# Altium footprint library SamacSys.PcbLib: 25 footprints (part 2 of 2)
Each footprint in its own frame and in the unit in brackets; x right, y up, seen from the top. Pads: shape width x height; smd on the part's side, far side on the other; paste and mask are expansions set on the pad; w line width, h text height; cw(c..) or ccw(c..) is an arc to the next point about the centre after c.
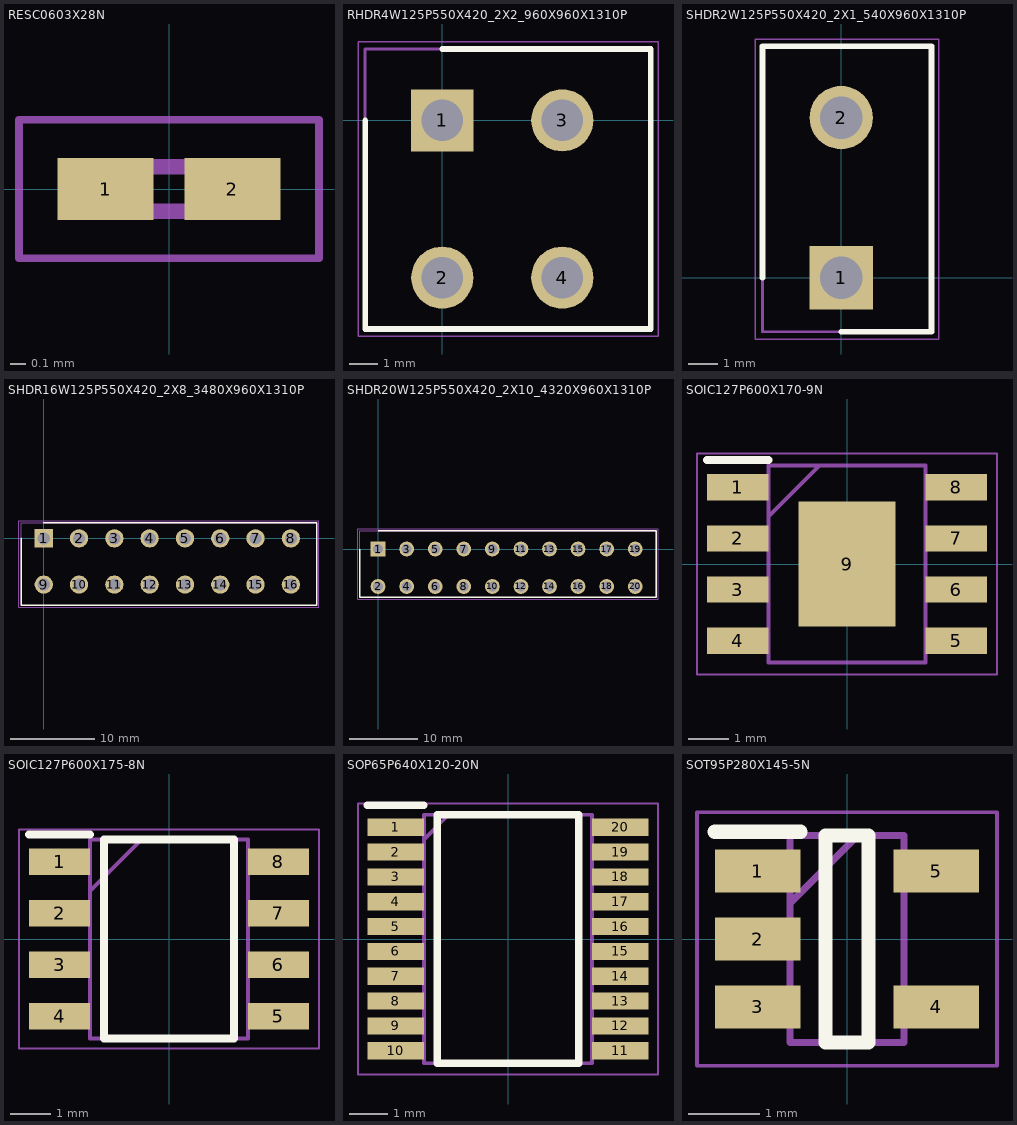
[diagram p1: the footprints below, top view; thin cyan lines are the x and y axes]

## RESC0603X28N [mm]
pads (2):
  rect 0.625x0.4 smd: 1(-0.412,0) 2(0.412,0)
Mechanical 13:
  lines w0.1: -0.29,-0.145 -0.29,0.145 0.29,0.145 0.29,-0.145 -0.29,-0.145
Mechanical 15:
  lines w0.05: -0.975,-0.45 -0.975,0.45 0.975,0.45 0.975,-0.45 -0.975,-0.45
3D body "CPF0201D10K2C1.stp": height 0.28, standoff 0, extent -0.29,-0.145 0.29,0.145

## RHDR4W125P550X420_2X2_960X960X1310P [mm]
pads (4):
  rect 2.175x2.175 hole 1.45: 1(0,0)
  round 2.175 hole 1.45: 2(0,-5.5) 3(4.2,0) 4(4.2,-5.5)
Top Overlay:
  lines w0.2: -2.7,0 -2.7,-7.3 7.3,-7.3 7.3,2.5 0,2.5
Mechanical 13:
  lines w0.1: -2.7,-7.3 -2.7,2.5 7.3,2.5 7.3,-7.3 -2.7,-7.3
Mechanical 15:
  lines w0.05: -2.95,-7.55 -2.95,2.75 7.55,2.75 7.55,-7.55 -2.95,-7.55
3D body "39-28-8040.stp": height 12.73, standoff -3.57, extent -3.09,-8.72 7.31,2.28

## SHDR2W125P550X420_2X1_540X960X1310P [mm]
pads (2):
  rect 2.175x2.175 hole 1.45: 1(0,0)
  round 2.175 hole 1.45: 2(0,5.5)
Top Overlay:
  lines w0.2: -2.7,0 -2.7,7.95 3.1,7.95 3.1,-1.85 0,-1.85
Mechanical 13:
  lines w0.1: -2.7,-1.85 3.1,-1.85 3.1,7.95 -2.7,7.95 -2.7,-1.85
Mechanical 15:
  lines w0.05: -2.95,-2.1 3.35,-2.1 3.35,8.2 -2.95,8.2 -2.95,-2.1
3D body "39-28-8020.stp": height 12.8, standoff -3.5, extent -2.9,-2.45 3.3,8.55

## SHDR16W125P550X420_2X8_3480X960X1310P [mm]
pads (16):
  rect 2.175x2.175 hole 1.45: 1(0,0)
  round 2.175 hole 1.45: 2(4.2,0) 3(8.4,0) 4(12.6,0) 5(16.8,0) 6(21,0) 7(25.2,0) 8(29.4,0) 9(0,-5.5) 10(4.2,-5.5) 11(8.4,-5.5) 12(12.6,-5.5) 13(16.8,-5.5) 14(21,-5.5) 15(25.2,-5.5) 16(29.4,-5.5)
Top Overlay:
  lines w0.2: -2.7,0 -2.7,-7.95 32.5,-7.95 32.5,1.85 0,1.85
Mechanical 13:
  lines w0.1: -2.7,-7.95 -2.7,1.85 32.5,1.85 32.5,-7.95 -2.7,-7.95
Mechanical 15:
  lines w0.05: -2.95,-8.2 -2.95,2.1 32.75,2.1 32.75,-8.2 -2.95,-8.2
3D body "39-28-8160.stp": height 12.71, standoff -3.59, extent -3.12,-8.73 32.48,2.27

## SHDR20W125P550X420_2X10_4320X960X1310P [mm]
pads (20):
  rect 2.175x2.175 hole 1.45: 1(0,0)
  round 2.175 hole 1.45: 2(0,-5.5) 3(4.2,0) 4(4.2,-5.5) 5(8.4,0) 6(8.4,-5.5) 7(12.6,0) 8(12.6,-5.5) 9(16.8,0) 10(16.8,-5.5) 11(21,0) 12(21,-5.5) 13(25.2,0) 14(25.2,-5.5) 15(29.4,0) 16(29.4,-5.5) 17(33.6,0) 18(33.6,-5.5) 19(37.8,0) 20(37.8,-5.5)
Top Overlay:
  lines w0.2: -2.7,0 -2.7,-7.1 40.9,-7.1 40.9,2.7 0,2.7
Mechanical 13:
  lines w0.1: -2.7,-7.1 -2.7,2.7 40.9,2.7 40.9,-7.1 -2.7,-7.1
Mechanical 15:
  lines w0.05: -2.95,-7.35 -2.95,2.95 41.15,2.95 41.15,-7.35 -2.95,-7.35
3D body "39-28-1203.stp": height 12.8, standoff -3.5, extent -2.9,-7.7 41.1,3.3

## SOIC127P600X170-9N [mm]
pads (9):
  rect 1.525x0.65 smd: 1(-2.712,1.905) 2(-2.712,0.635) 3(-2.712,-0.635) 4(-2.712,-1.905) 5(2.712,-1.905) 6(2.712,-0.635) 7(2.712,0.635) 8(2.712,1.905)
  rect 2.4x3.1 smd: 9(0,0)
Top Overlay:
  lines w0.2: -3.475,2.58 -1.95,2.58
Mechanical 13:
  lines w0.1: -1.95,1.18 -0.68,2.45 ; -1.95,-2.45 -1.95,2.45 1.95,2.45 1.95,-2.45 -1.95,-2.45
Mechanical 15:
  lines w0.05: -3.725,-2.75 -3.725,2.75 3.725,2.75 3.725,-2.75 -3.725,-2.75
3D body "TPS5450MDDAREP.stp": height 1.57, standoff 0, extent -3.014,-2.45 3.014,2.45

## SOIC127P600X175-8N [mm]
pads (8):
  rect 1.5x0.65 smd: 1(-2.7,1.905) 2(-2.7,0.635) 3(-2.7,-0.635) 4(-2.7,-1.905) 5(2.7,-1.905) 6(2.7,-0.635) 7(2.7,0.635) 8(2.7,1.905)
Top Overlay:
  lines w0.2: -3.45,2.58 -1.95,2.58 ; -1.6,-2.45 -1.6,2.45 1.6,2.45 1.6,-2.45 -1.6,-2.45
Mechanical 13:
  lines w0.1: -1.95,1.18 -0.68,2.45 ; -1.95,-2.45 -1.95,2.45 1.95,2.45 1.95,-2.45 -1.95,-2.45
Mechanical 15:
  lines w0.05: -3.7,-2.7 -3.7,2.7 3.7,2.7 3.7,-2.7 -3.7,-2.7
3D body "AS5600-ASOM.stp": height 1.75, standoff 0, extent -3,-2.45 3,2.45

## SOP65P640X120-20N [mm]
pads (20):
  rect 1.475x0.45 smd: 1(-2.938,2.925) 2(-2.938,2.275) 3(-2.938,1.625) 4(-2.938,0.975) 5(-2.938,0.325) 6(-2.938,-0.325) 7(-2.938,-0.975) 8(-2.938,-1.625) 9(-2.938,-2.275) 10(-2.938,-2.925) 11(2.938,-2.925) 12(2.938,-2.275) 13(2.938,-1.625) 14(2.938,-0.975) 15(2.938,-0.325) 16(2.938,0.325) 17(2.938,0.975) 18(2.938,1.625) 19(2.938,2.275) 20(2.938,2.925)
Top Overlay:
  lines w0.2: -3.675,3.5 -2.2,3.5 ; -1.85,-3.25 -1.85,3.25 1.85,3.25 1.85,-3.25 -1.85,-3.25
Mechanical 13:
  lines w0.1: -2.2,2.6 -1.55,3.25 ; -2.2,-3.25 -2.2,3.25 2.2,3.25 2.2,-3.25 -2.2,-3.25
Mechanical 15:
  lines w0.05: -3.925,-3.55 -3.925,3.55 3.925,3.55 3.925,-3.55 -3.925,-3.55
3D body "PCA9544APWR.stp": height 1.13, standoff 0, extent -3.2,-3.25 3.2,3.25

## SOT95P280X145-5N [mm]
pads (5):
  rect 1.2x0.6 smd: 1(-1.25,0.95) 2(-1.25,0) 3(-1.25,-0.95) 4(1.25,-0.95) 5(1.25,0.95)
Top Overlay:
  lines w0.2: -1.85,1.5 -0.65,1.5 ; -0.3,-1.45 -0.3,1.45 0.3,1.45 0.3,-1.45 -0.3,-1.45
Mechanical 13:
  lines w0.1: -0.8,0.5 0.15,1.45 ; -0.8,-1.45 -0.8,1.45 0.8,1.45 0.8,-1.45 -0.8,-1.45
Mechanical 15:
  lines w0.05: -2.1,-1.775 -2.1,1.775 2.1,1.775 2.1,-1.775 -2.1,-1.775
3D body "TPS79118DBVR.stp": height 1.2, standoff 0, extent -1.4,-1.45 1.4,1.45